# Altium schematic symbol library Guitar_Headphone_Amp.SCHLIB: 24 symbols
Pins are listed as number, name and electrical type; pins without a type are passive.

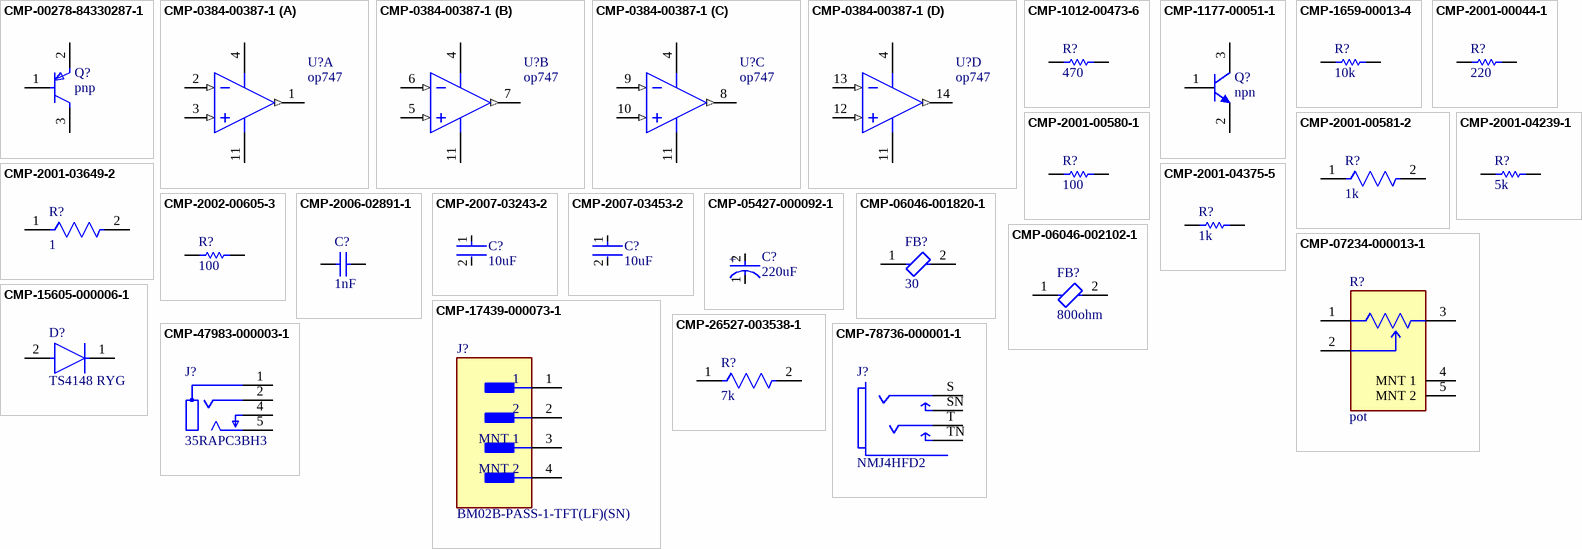
[diagram p0: symbols CMP-00278-84330287-1 to CMP-78736-000001-1]

## CMP-00278-84330287-1
designator Q?, comment pnp
MMBTA56 Small Signal Bipolar Transistor, 0.5A I(C), 80V V(BR)CEO, 1-Element, PNP, Silicon; Manufacturer Lifecycle Status: OBSOLETE; NexarPartId: 84330287; Manufacturer: ON Semiconductor / Fairchild; Voltage Rating (DC): -80V; Current Rating: -500mA; Power Dissipation: 350mW; Collector Emitter Breakdown Voltage: 80V; Schedule B: 8541210080, 8541210080; RoHS: Compliant; Number of Pins: 3; Polarity: PNP; Packaging: Digi-Reel®; Lifecycle Status: Obsolete; Lead Free: Lead Free; Manufacturer Part Number: MMBTA56
footprint FP-318BM-MFG (Tape & Reel (TR) Surface Mount NPN SINGLE Bipolar (BJT) Transistor 40 @ 10mA 1V 200mA 225mW 500MHz)
footprint FP-318BM-IPC_A (Tape & Reel (TR) Surface Mount NPN SINGLE Bipolar (BJT) Transistor 40 @ 10mA 1V 200mA 225mW 500MHz)
footprint FP-318BM-IPC_B (Tape & Reel (TR) Surface Mount NPN SINGLE Bipolar (BJT) Transistor 40 @ 10mA 1V 200mA 225mW 500MHz)
footprint FP-318BM-IPC_C (Tape & Reel (TR) Surface Mount NPN SINGLE Bipolar (BJT) Transistor 40 @ 10mA 1V 200mA 225mW 500MHz)
pins: 1 B, 2 E, 3 C

## CMP-0384-00387-1
designator U?, comment op747
Quad Channel Rail-to-Rail Operational Amplifier, 700 KHz BW, 200 mV/us SR, Industrial, 14-pin SOIC (R-14), Reel; Manufacturer: Analog Devices; PartNumber: OP747ARZ-REEL7; Input Bias Current: 5.5nA; Input Offset Voltage: 30uV; Small Signal Bandwidth: 700KHz; V Span Min: 3V; V Span Max: 36V; Amplifiers Per Package: 4; Iq/Amp: 290uA; DatasheetVersion: Rev. D; Mounting Technology: Surface Mount; ComponentLink1URL: http://www.analog.com/en/index.html; PackageVersion: 060606-A; ComponentLink2Description: Datasheet; ComponentLink2URL: http://www.analog.com/static/imported-files/data_sheets/OP777_727_747.pdf; PackageDescription: 14-Pin Standard Small Outline Package, Body 8.65 x 3.9 mm, Pitch 1.27 mm; PackageReference: R-14; ComponentLink3URL: http://www.analog.com/static/imported-files/packages/PKG_PDF/SOIC_Narrow%20(R)/R_14.pdf; Generic Part Number: OP747; ComponentLink3Description: Package Specification; Slew Rate: 200mV/us; ComponentLink1Description: Manufacturer URL; Code_JEDEC: MS-012-AB; Manufacturer Part Number: OP747ARZ-REEL7
footprint ADI-R-14_L (SOIC, 14-Leads, Body 8.65x3.9mm, Pitch 1.27mm, IPC High Density)
footprint ADI-R-14_M (SOIC, 14-Leads, Body 8.65x3.9mm, Pitch 1.27mm, IPC Low Density)
footprint ADI-R-14_N (SOIC, 14-Leads, Body 8.65x3.9mm, Pitch 1.27mm, IPC Medium Density)
pins on every part: 4 +V (power), 11 -V (power)
part A pins: 1 OUT A (out), 2 -IN A (in), 3 +IN A (in)
part B pins: 5 +IN B (in), 6 -IN B (in), 7 OUT B (out)
part C pins: 8 OUT C (out), 9 -IN C (in), 10 +IN C (in)
part D pins: 12 +IN D (in), 13 -IN D (in), 14 OUT D (out)

## CMP-1012-00473-6
designator R?, comment 470
Chip Resistor, 470 Ohm, +/- 1%, 0.1 W, -55 to 155 degC, 0603 (1608 Metric), RoHS, Tape and Reel; Manufacturer: Panasonic; Manufacturer Part Number: ERJ-3EKF4700V; Manufacturer: Bourns; Manufacturer Part Number: CR0603-FX-4700ELF; Manufacturer: Vishay Dale; Manufacturer Part Number: CRCW0603470RFKTC; Manufacturer Part Number: CRCW0603470RFKTA; Manufacturer: Vishay; Manufacturer Part Number: CRCW0603470RFKEC; Manufacturer: Yageo; Manufacturer Part Number: RC0603FR-07470RL; Manufacturer Part Number: CRCW0603470RFKEB; Manufacturer Part Number: CRCW0603-470RFKEA; Voltage Rating: 75 V; Height: 0.45 mm; ComponentLink1Description: Manufacturer URL; Packaging: Tape and Reel; Max Operating Temperature: 155 degC; ComponentLink3Description: Package Specification; ComponentLink3URL: https://datasheet.ciiva.com/11808/0900766b80f806dd-11808207.pdf; ComponentLink2Description: Datasheet; RoHSCompliant: true; ComponentLink1URL: http://www.panasonic.com/; Min Operating Temperature: -55 degC; PackageReference: 0603; DatasheetVersion: 04/2015; REACH SVHC: Yes; Length: 1.6 mm; Mount: Surface Mount; Mounting Technology: Surface Mount; Pins: 2; ComponentLink2URL: http://industrial.panasonic.com/cdbs/www-data/pdf/RDA0000/AOA0000C86.pdf; PackageDescription: 2-Pin Surface Mount Device, Body 1.6 x 0.85 mm; Package Quantity: 1
footprint RESC1608X55X30ML15T15 (Chip Resistor, 2-Leads, Body 1.75x0.95mm, IPC Low Density)
footprint RESC1608X55X30NL15T15 (Chip Resistor, 2-Leads, Body 1.75x0.95mm, IPC Medium Density)
footprint RESC1608X55X30LL15T15 (Chip Resistor, 2-Leads, Body 1.75x0.95mm, IPC High Density)
pins: 1, 2

## CMP-1177-00051-1
designator Q?, comment npn
NPN Silicon AF Transistor, 80 V VCEO, 500 mA IC, SOT23, Reel, Green; PartNumber: SMBTA06; Manufacturer: Infineon; IC (max): 500Â mA; ICBO (max): 100Â nA; VCBO (max): 80Â V; Green: TRUE; fT (typ): 100Â MHz; VEBO (max): 4Â V; VCE: 1 V; ICM (max): 1,000Â mA; IC: 100Â mA; IBM (max): 200Â mA; Ptot (max): 330 mW; PackageVersion: Apr-08; ComponentLink3Description: Package Specification; Polarity: NPN; ComponentLink1URL: http://www.infineon.com/; Mounting Technology: Surface Mount; Packing: Reel; ComponentLink2Description: Datasheet; PackageReference: SOT23; ComponentLink3URL: http://www.infineon.com/dgdl/SOT23-Package_Overview.pdf?folderId=db3a30431936bc4b0119532290053c66&fileId=db3a30431936bc4b0119533468123c85; PackageDescription: 3-Pin Small Outline Transistor Package, 1.3 x 2.9 mm Body, 0.95 mm Pitch; VCEO (max): 80Â V; ComponentLink1Description: Manufacturer URL; ComponentLink2URL: http://www.infineon.com/dgdl/smbta06_mmbta06.pdf?folderId=db3a304314dca389011545f4eb561884&fileId=db3a304314dca3890115478ecca71a2d; Manufacturer Part Number: SMBTA06
footprint INF-SOT23_L (SOT23, 3-Leads, Body 2.9x1.3 mm, Pitch 0.95 mm, IPC High Density)
footprint INF-SOT23_M (SOT23, 3-Leads, Body 2.9x1.3 mm, Pitch 0.95 mm, IPC Low Density)
footprint INF-SOT23_N (SOT23, 3-Leads, Body 2.9x1.3 mm, Pitch 0.95 mm, IPC Medium Density)
pins: 1 B, 2 E, 3 C

## CMP-1659-00013-4
designator R?, comment 10k
Chip Resistor, 10 KOhm, +/- 1%, 0.125 W, -55 to 155 degC, 0805 (2012 Metric), RoHS, Tape and Reel; Manufacturer: Yageo; Manufacturer Part Number: RC0805FR-0710KL; Voltage Rating: 150 V; Mount: Surface Mount; ComponentLink1Description: Manufacturer URL; ComponentLink2URL: http://www.yageo.com/documents/recent/PYu-RC_Group_51_RoHS_L_04.pdf; Pins: 2; Length: 2 mm; Min Operating Temperature: -55 degC; Height: 0.5 mm; Mounting Technology: Surface Mount; RoHSCompliant: true; REACH SVHC: No SVHC; ComponentLink1URL: http://www.yageo.com/; Max Operating Temperature: 155 degC; PackageReference: 0805; DatasheetVersion: Rev. 4, 02/2016; Package Quantity: 5000; Packaging: Tape and Reel; ComponentLink2Description: Datasheet; PackageDescription: 2-Pin Surface Mounted Device, Body 2 x 1.25 mm
footprint RESC2013X60X35NL10T20 (Chip Resistor, 2-Leads, Body 2.1x1.35mm, IPC Medium Density)
footprint RESC2013X60X35LL10T20 (Chip Resistor, 2-Leads, Body 2.1x1.35mm, IPC High Density)
footprint RESC2013X60X35ML10T20 (Chip Resistor, 2-Leads, Body 2.1x1.35mm, IPC Low Density)
pins: 1, 2

## CMP-2001-00044-1
designator R?, comment 220
Part Number: ERJ6ENF2200V; Manufacturer: Panasonic; Manufacturer Part Number: ERJ-6ENF2200V
footprint RESC2013X70X40NL20T20 (Chip Resistor, 2-Leads, Body 2.00x1.25mm, IPC Medium Density)
footprint RESC2013X70X40ML20T20 (Chip Resistor, 2-Leads, Body 2.00x1.25mm, IPC Low Density)
footprint RESC2013X70X40LL20T20 (Chip Resistor, 2-Leads, Body 2.00x1.25mm, IPC High Density)
pins: 1, 2
1 alternate drawing of the same symbol

## CMP-2001-00580-1
designator R?, comment 100
Manufacturer: Panasonic; Part Number: ERA6AEB101V; Manufacturer Part Number: ERA-6AEB101V
footprint RESC2013X60X40ML20T25 (Chip Resistor, 2-Leads, Body 2.00x1.25mm, IPC Low Density)
footprint RESC2013X60X40LL20T25 (Chip Resistor, 2-Leads, Body 2.00x1.25mm, IPC High Density)
footprint RESC2013X60X40NL20T25 (Chip Resistor, 2-Leads, Body 2.00x1.25mm, IPC Medium Density)
pins: 1, 2
1 alternate drawing of the same symbol

## CMP-2001-00581-2
designator R?, comment 1k
RES 1K OHM 0.1% 1/8W 0805; Manufacturer: Panasonic; Manufacturer Part Number: ERA-6AEB102V; Temperature Coefficient: 25ppm/°C; Resistance: 1kR; Working Voltage: 100V; Max Power Dissipation: 125mW; Height: 0.5mm; Technology: THIN FILM; REACH SVHC: No SVHC; Packaging: Tape and Reel; Length: 2mm; Width: 1.25mm; Resistance Tolerance: 0.1%; Series: ERA-6A; Resistor Type: Thin Film; Number of Pins: 2; Case Code (Metric): 2012; Voltage Rating: 100V; Radiation Hardening: No; Construction: Rectangular; Mount: Surface Mount; Number of Terminations: 2; Case/Package: 0805; Min Operating Temperature: -55°C; Military Standard: Not; RoHS Compliant: Yes; Termination: SMD/SMT; Case Code (Imperial): 0805; Depth: 1.25mm; Power Rating: 125mW; Max Operating Temperature: 155°C; Contact Plating: Tin; Package Quantity: 5000; Tolerance: 0.1%
footprint FP-ERA6A-IPC_C
footprint FP-ERA6A-MFG
footprint FP-ERA6A-IPC_A
footprint FP-ERA6A-IPC_B
pins: 1, 2

## CMP-2001-03649-2
designator R?, comment 1
RES Thick Film, 1Ω, 1%, 0.125W, 100ppm/°C, 0805; Manufacturer: Vishay Dale; Manufacturer Part Number: CRCW08051R00FKEA; Power Rating: 125mW; Resistance: 1R; Voltage Rating: 150V; Number of Terminations: 2; Mount: Surface Mount; Packaging: Tape and Reel; Radiation Hardening: No; Number of Pins: 2; Case Code (Imperial): 0805; Contact Plating: Tin; Military Standard: Not; Min Operating Temperature: -55°C; Case Code (Metric): 2012; Max Operating Temperature: 155°C; Max Power Dissipation: 125mW; Termination: SMD/SMT; Weight: 0.000194oz; Case/Package: 0805; Width: 0.049inch; Temperature Coefficient: 100ppm/°C; Package Quantity: 10; Composition: Thick Film; Tolerance: 1%; Height: 0.02inch; Depth: 1.25mm; Length: 2mm; Features: Automotive AEC-Q200
footprint FP-CRCW0805-e3-IPC_A
footprint FP-CRCW0805-e3-IPC_C
footprint FP-CRCW0805-e3-IPC_B
footprint FP-CRCW0805-e3-MFG
pins: 1, 2

## CMP-2001-04239-1
designator R?, comment 5k
Part Number: CRCW08055K00FKTA; Manufacturer: Vishay Dale; Manufacturer Part Number: CRCW08055K00FKTA
footprint RESC2013X50X30ML20T20 (Chip Resistor, 2-Leads, Body 2.00x1.25mm, IPC Low Density)
footprint RESC2013X50X30NL20T20 (Chip Resistor, 2-Leads, Body 2.00x1.25mm, IPC Medium Density)
footprint RESC2013X50X30LL20T20 (Chip Resistor, 2-Leads, Body 2.00x1.25mm, IPC High Density)
pins: 1, 2
1 alternate drawing of the same symbol

## CMP-2001-04375-5
designator R?, comment 1k
Chip Resistor, 1 KOhm, +/- 1%, 0.125 W, -55 to 155 degC, 0805 (2012 Metric), RoHS, Tape and Reel; Manufacturer: Panasonic; Manufacturer Part Number: ERJ-6ENF1001V; Voltage Rating: 150 V; ComponentLink1URL: http://www.panasonic.com/; ComponentLink2Description: Datasheet; REACH SVHC: Yes; ComponentLink1Description: Manufacturer URL; Length: 2 mm; Height: 0.6 mm; Package Quantity: 1; PackageDescription: 2-Pin Surface Mount Device, Body 2 x 1.25 mm; Packaging: Cut Tape; PackageReference: 0805; Max Operating Temperature: 155 degC; Mounting Technology: Surface Mount; ComponentLink2URL: http://industrial.panasonic.com/cdbs/www-data/pdf/RDA0000/AOA0000C86.pdf; DatasheetVersion: 04/2015; Min Operating Temperature: -55 degC; RoHSCompliant: true; Mount: Surface Mount
footprint RESC2013X70X40ML20T20 (Chip Resistor, 2-Leads, Body 2.00x1.25mm, IPC Low Density)
footprint RESC2013X70X40LL20T20 (Chip Resistor, 2-Leads, Body 2.00x1.25mm, IPC High Density)
footprint RESC2013X70X40NL20T20 (Chip Resistor, 2-Leads, Body 2.2x1.35mm, IPC Medium Density)
pins: 1, 2

## CMP-2002-00605-3
designator R?, comment 100
Chip Resistor, 100 Ohm, +/- 1%, 100 mW, -55 to 155 degC, 0402 (1005 Metric), RoHS, Tape and Reel; Manufacturer: Basic Passives; PartNumber: ERJ-2RKF1000X; Manufacturer: Panasonic; Power Rating: 100 mW; Resistance: 100 Ohm; Voltage Rating: 50 V; Case\/Package: 0402; Width: 0.5 mm; Pins: 2; ComponentLink2Description: Datasheet; PackageReference: 0402; Height: 0.35 mm; Tolerance: 1%; DatasheetVersion: 04/2015; Case Code (Imperial): 0402; Min Operating Temperature: -55 degC; Radiation Hardening: No; Length: 1 mm; Package Quantity: 10000; PackageDescription: 2-Pin Surface Mount Device, Body 1 x 0.5 mm; Mounting Technology: Surface Mount; Case Code (Metric): 1005; Packaging: Tape and Reel; ComponentLink1URL: http://www.panasonic.com/; RoHSCompliant: true; Max Operating Temperature: 155 degC; REACH SVHC: Yes; ComponentLink1Description: Manufacturer URL; ComponentLink2URL: http://industrial.panasonic.com/cdbs/www-data/pdf/RDA0000/AOA0000C86.pdf; Mount: Surface Mount; Manufacturer Part Number: ERJ-2RKF1000X
footprint RESC1005X40X25LL05T05 (Chip Resistor, 2-Leads, Body 1.05x0.55mm, IPC High Density)
footprint RESC1005X40X25ML05T05 (Chip Resistor, 2-Leads, Body 1.05x0.55mm, IPC Low Density)
footprint RESC1005X40X25NL05T05 (Chip Resistor, 2-Leads, Body 1.05x0.55mm, IPC Medium Density)
pins: 1, 2

## CMP-2006-02891-1
designator C?, comment 1nF
Part Number: GRM188R71H102KA01D; Manufacturer: Murata; Manufacturer Part Number: GRM188R71H102KA01D
footprint CAPC1608X90X35NL10T15 (Chip Capacitor, 2-Leads, Body 1.60x0.80mm, IPC Medium Density)
footprint CAPC1608X90X35ML10T15 (Chip Capacitor, 2-Leads, Body 1.60x0.80mm, IPC Low Density)
footprint CAPC1608X90X35LL10T15 (Chip Capacitor, 2-Leads, Body 1.60x0.80mm, IPC High Density)
pins: 1, 2
1 alternate drawing of the same symbol

## CMP-2007-03243-2
designator C?, comment 10uF
CAP CER 10UF 10V X5R 0805; Manufacturer Part Number: C0805C106K8PACTU; Manufacturer: Kemet; 3DS Part Number: 220-00001; Tolerance: 10%; Description: SMD Comm X5R, Ceramic, 10 uF, 10%, 10 V, X5R, SMD, MLCC, Temperature Stable, Class II, 0805; Temperature Coefficient: 15%; Material: Ceramic; Device Class L2: Capacitors; Device Class L1: Passive Components; ComponentLink2URL: https://content.kemet.com/datasheets/KEM_C1006_X5R_SMD.pdf; Height: 1.4mm; Lead Free: Yes; Digikey Description: CAP CER 10UF 10V X5R 0805; Octopart: https://octopart.com/c0805c106k8pactu-kemet-98697; Capacitance: 10uF; Value: 10uF; Temperature Range Low: -55°C; Temperature: -55°C to +85°C; Automotive: No; Mouser Description: CAP CER 10UF 10V X5R 0805; Ipc Land Pattern Name: CAPC200125X125; Temperature Range High: +85°C; Voltage: 10V; RoHS: TRUE; Device Class L3: Ceramic Capacitors; ComponentLink2Description: Datasheet; Voltage Rating: 10V; Package: C0805C-DG; Temperature Characteristic: X5R; Category: Cap; Manufacturer: KEMET
footprint FP-C0805C-DG-MFG
footprint FP-C0805C-DG-IPC_C
footprint FP-C0805C-DG-IPC_B
footprint FP-C0805C-DG-IPC_A
pins: 1, 2

## CMP-2007-03453-2
designator C?, comment 10uF
Chip Multilayer Ceramic Capacitors for General Purpose, 0805, 10uF, X5R, 15%, 10%, 16V; Manufacturer: Murata; Manufacturer Part Number: GRM21BR61C106KE15L; Radiation Hardening: No; Thickness: 0.053inch; Voltage Rating (DC): 16V; Lead Free: Lead Free; Package Quantity: 1; Width: 1.25mm; Case Code (Imperial): 0805; Depth: 1.25mm; Packaging: Tape and Reel; Dielectric: X5R; Max Operating Temperature: 85°C; Tolerance: 10%; Voltage Rating: 16V; Voltage: 16V; Capacitance: 10uF; Height: 1.25mm; Case Code (Metric): 2012; Material: Ceramic; Mount: Surface Mount; Case/Package: 0805; REACH SVHC: No SVHC; Length: 2mm; Min Operating Temperature: -55°C; Termination: SMD/SMT
footprint FP-GRM21B-0_1-IPC_C
footprint FP-GRM21B-0_1-MFG
footprint FP-GRM21B-0_1-IPC_A
footprint FP-GRM21B-0_1-IPC_B
pins: 1, 2

## CMP-05427-000092-1
designator C?, comment 220uF
CAP ALUM 220UF 20% 50V SMD; Manufacturer: Panasonic; Manufacturer Part Number: EEE-FT1H221AP; Ripple Current (AC): 670mA; Dielectric Material: Aluminium; Life (Hours): 2000Hour; Leakage Current: 110uA; Lead Diameter: 0.9mm; ESR (Equivalent Series Resistance): 180mR; REACH SVHC: No SVHC; Voltage Rating (DC): 50V; Radiation Hardening: No; Capacitance: 220uF; Length: 10.2mm; Construction: Cylindrical; Case/Package: Radial; Series: FT; Lead Free: Lead Free; Voltage Rating: 50V; Tolerance: 20%; Contact Plating: Tin; Number of Pins: 2; Height - Seated (Max): 0.413inch; RoHS Compliant: Yes; Diameter: 8mm; Ripple Current: 670mA; Lead Pitch: 3.1mm; Termination: SMD/SMT; Mount: Surface Mount; Min Operating Temperature: -55°C; Max Operating Temperature: 105°C; Voltage: 50V; Height: 10.2mm; Package Quantity: 500; Packaging: Tape and Reel
footprint FP-FTF-MFG
pins: 1 C, 2 A
text: +

## CMP-06046-001820-1
designator FB?, comment 30
Chip Ferrite Bead, 0805, 30Ω @ 100MHz, 0.014Ω, , 4A; Manufacturer: Murata; Manufacturer Part Number: BLM21PG300SH1D; Impedance: 30R; Shielding: Unshielded; Max DC Current: 3A; Tolerance: 25%; DC Resistance (DCR): 14mR; Material: Steel; Number of Lines: 1; DC Resistance-Max: 15MR; Core Material: Ferrite; Mount: Surface Mount; Packaging: Tape and Reel; Depth: 1.45mm; Height: 0.041inch; Weight: 0.000194oz; Case Code (Metric): 2012; Ratings: AEC-Q200; Test Frequency: 100MHz; Series: EMIFIL®, BLM21P; Max Operating Temperature: 125°C; Case/Package: 0805; Lead Free: Lead Free; Length: 2mm; REACH SVHC: No SVHC; Case Code (Imperial): 0805; Width: 1.25mm; Package Quantity: 4000; Termination: SMD/SMT; Max Current Rating: 4A; Min Operating Temperature: -55°C; RoHS Compliant: Yes; Current Rating: 3A; Number of Circuits: 1
footprint FP-BLM21-0_2-t0_85-e0_5-d-IPC_B
footprint FP-BLM21-0_2-t0_85-e0_5-d-IPC_C
footprint FP-BLM21-0_2-t0_85-e0_5-d-MFG
footprint FP-BLM21-0_2-t0_85-e0_5-d-IPC_A
pins: 1, 2

## CMP-06046-002102-1
designator FB?, comment 800ohm
Chip Ferrite Bead, 1206, 800Ω @ 100MHz, 0.05Ω, 25%, 2.5A; Manufacturer: Murata; Manufacturer Part Number: BLM31KN801SH1L; DC Resistance (DCR): 50mR; Number of Lines: 1; Case Code (Metric): 3216; Case/Package: 1206; RoHS Compliant: Yes; Max Operating Temperature: 125°C; Min Operating Temperature: -55°C; Packaging: Tape and Reel; Mount: Surface Mount; Ratings: AEC-Q200; Case Code (Imperial): 1206; Max Current Rating: 2.5A
footprint FP-BLM31-0_2-t1_6-IPC_C
footprint FP-BLM31-0_2-t1_6-IPC_B
footprint FP-BLM31-0_2-t1_6-IPC_A
footprint FP-BLM31-0_2-t1_6-MFG
pins: 1, 2

## CMP-07234-000013-1
designator R?, comment pot
POT 10K OHM 1/20W CARBON LINEAR; Manufacturer Part Number: PTV09A-4020U-B103; Manufacturer: Bourns Inc.; Manufacturer: Bourns; Voltage Rating: 50V; Resistance: 10kΩ; Description: Res Carbon Film POT 10K Ohm 20% 1/20W 1(Elec)/1(Mech)Turn 6mm Pin Bracket Mount/Through Hole; Tolerance: 20%; Value: 10kΩ; Power Rating: 0.05W; Composition: Carbon; Lead Free: Yes; Device Class L1: Passive Components; Device Class L3: Variable Resistors and Potentiometers; Temperature: -10°C to +50°C; Series: PTV09; Device Class L2: Resistors; Temperature Range Low: -10°C; Height: 20.5mm; Temperature Range High: +50°C; Octopart: https://octopart.com/ptv09a-4020u-b103-bourns-1878033; Digikey Description: POT 10K OHM 1/20W CARBON LINEAR; RoHS: TRUE; ComponentLink2URL: https://www.bourns.com/docs/product-datasheets/ptv09.pdf?sfvrsn=5e1089f1_12; Package: PTV09A-4; Mouser Description: Potentiometers 10K LINEAR 20%; Category: Res; ComponentLink2Description: Datasheet; Automotive: No
footprint FP-PTV09A-4-MFG
pins: 1, 2, 3, 4 MNT 1, 5 MNT 2

## CMP-15605-000006-1
designator D?, comment TS4148 RYG
Rectifier Diode Switching 75V 0.15A 4ns 2-Pin Case 0805(2012Metric) T/R; Manufacturer: Taiwan Semiconductor; Peak Non-Repetitive Surge Current: 2A; Element Configuration: Single; Forward Voltage: 1V; Max Operating Temperature: 175°C; Packaging: Tape and Reel; Radiation Hardening: No; Min Operating Temperature: -65°C; Reverse Recovery Time: 4ns; Mount: Surface Mount; RoHS Compliant: Yes; Max Forward Surge Current (Ifsm): 2A; Case/Package: SMD/SMT; Number of Pins: 2; Max Repetitive Reverse Voltage (Vrrm): 75V; Manufacturer Part Number: TS4148RYG
footprint FP-TS4148_RYG-MFG
footprint FP-TS4148_RYG-IPC_C
footprint FP-TS4148_RYG-IPC_B
footprint FP-TS4148_RYG-IPC_A
pins: 1 C, 2 A

## CMP-17439-000073-1
designator J?, comment BM02B-PASS-1-TFT(LF)(SN)
CONN HEADER SMD 2POS 2MM; Manufacturer: JST; Number of Positions: 2; Gender: Male; Pitch: 0.079inch; Connector Type: Male Pin; Contact Plating: Tin; Contact Material: Copper; Color: Natural; Packaging: Tape and Reel; Series: PA; Termination: Solder; Mount: Surface Mount; Fastening Type: Ramp; Number of Rows: 1; Lead Free: Lead Free; Number of Contacts: 2; Contact Type: Male Pin; Manufacturer Part Number: BM02B-PASS-1-TFT(LF)(SN)
footprint FP-BM02B-PASS-1-TFT_LF_S-MFG
pins: 1, 2, 3 MNT 1, 4 MNT 2

## CMP-26527-003538-1
designator R?, comment 7k
4.7kΩ ±5% 0.125W 0805 Thick Film Chip Resistor AEC-Q200 compliant; Manufacturer: Stackpole Electronics; Manufacturer Part Number: RMCF0805JT4K70; Temperature Coefficient: 100ppm/°C; Resistance: 4.7kR; Max Power Dissipation: 125mW; Size Code: 0805; Case/Package: 0805; Mount: Surface Mount; RoHS Compliant: Yes; Height: 0.026inch; Case Code (Imperial): 0805; Military Standard: Not; Contact Plating: Tin; Length: 2mm; Resistor Type: Thick Film; Tolerance: 5%; Depth: 1.25mm; Radiation Hardening: No; Min Operating Temperature: -55°C; Number of Terminations: 2; Width: 0.049inch; Lead Free: Lead Free; Case Code (Metric): 2012; Construction: Rectangular; Packaging: Tape and Reel; Features: Automotive AEC-Q200; Power Rating: 125mW; Max Operating Temperature: 155°C; Series: RMCF
footprint FP-RMCF0805-MFG
footprint FP-RMCF0805-IPC_A
footprint FP-RMCF0805-IPC_B
footprint FP-RMCF0805-IPC_C
pins: 1, 2

## CMP-47983-000003-1
designator J?, comment 35RAPC3BH3
CONN JACK STEREO 3.5MM R/A; Manufacturer: Switchcraft; Gender: Female; Number of Positions: 3; Body Color: Black; Number of Ports: 1; Voltage Rating: 500V; Shielding: Unshielded; Body Material: Brass; Orientation: Right Angle; RoHS Compliant: Yes; Termination: Solder; Lead Free: Lead Free; Package Quantity: 1; Series: 35; Housing Material: PBT; Color: Black; Packaging: Bulk; Contact Plating: Silver; Mount: Through Hole; Contact Material: Copper Alloy; Number of Terminals/Pins: 3; Manufacturer Part Number: 35RAPC3BH3
footprint FP-35RAPC3BH3-MFG
pins: 1, 2, 4, 5

## CMP-78736-000001-1
designator J?, comment NMJ4HFD2
Conn 1/4" Mono Jack F 3 POS Solder RA Thru-Hole 3 Terminal 1 Port; Manufacturer: Neutrik; Number Of Contacts: 2; Current Rating: 0.5A; Voltage Rating: 50V; Conn Orientation: Horizontal; Is Female: yes; Temperature: -25°C to +70°C; ComponentLink2Description: Datasheet; ComponentLink2URL: https://www.neutrik.com/en/product/nmj4hfd2.pdf; Contact Material: Silver; Height: 15.89mm; Package: 0; Mouser Description: Phone Audio Connector, Socket, 2, PCB Mount, Metal Body, Silver Plated Contacts; Manufacturer Part Number: NMJ4HFD2; Automotive: No; RoHS: TRUE; Lead Free: Yes; Device Class L2: Audio / Video Connectors; Device Class L3: unset; Temperature Range Low: -25°C; Category: Conn; Footprint Url: https://www.neutrik.com/media/8576/download/st-nmj4hfd2.pdf?v=1; Temperature Range High: +70°C; Device Class L1: Connectors; Octopart: https://octopart.com/nmj4hfd2-neutrik-758952
footprint FP-NMJ4HFD2-MFG
pins: S, SN, T, TN